# EAGLE library part AK4115 (library akm)
High Feature 192kHz 24bit Digital Audio Interface Transceiver
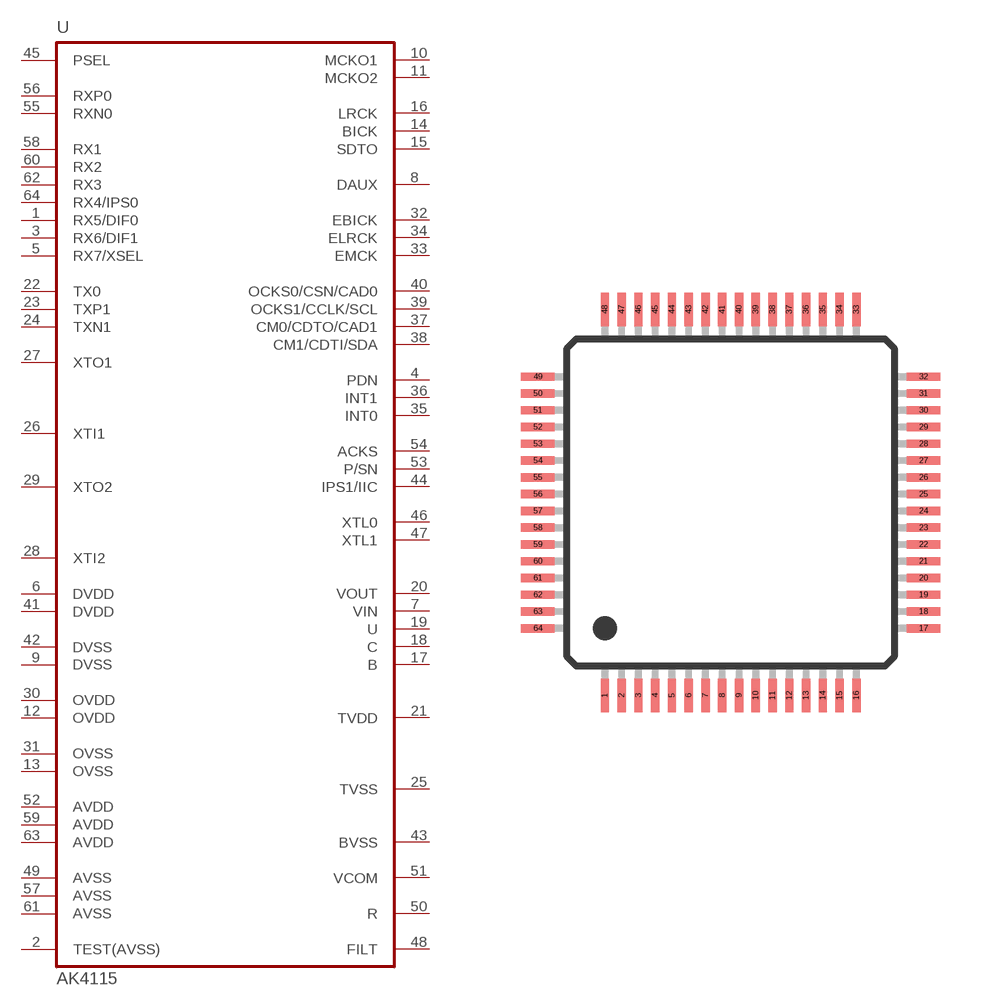
[diagram p25: symbol with the pads of LQFP64; footprint LQFP64]

Designator prefix U

## AK4115  [LQFP64]
1  RX5/DIF0
2  TEST(AVSS)  in
3  RX6/DIF1
4  PDN  in
5  RX7/XSEL
6  DVDD  pwr
7  VIN  in
8  DAUX  in
9  DVSS  pwr
10  MCKO1  out
11  MCKO2  out
12  OVDD  pwr
13  OVSS  pwr
14  BICK
15  SDTO  out
16  LRCK
17  B
18  C
19  U
20  VOUT
21  TVDD  pwr
22  TX0  out
23  TXP1  out
24  TXN1  out
25  TVSS  pwr
26  XTI1  in
27  XTO1  out
28  XTI2  in
29  XTO2  out
30  OVDD  pwr
31  OVSS  pwr
32  EBICK
33  EMCK  in
34  ELRCK
35  INT0  out
36  INT1  out
37  CM0/CDTO/CAD1
38  CM1/CDTI/SDA
39  OCKS1/CCLK/SCL  in
40  OCKS0/CSN/CAD0  in
41  DVDD  pwr
42  DVSS  pwr
43  BVSS  pwr
44  IPS1/IIC  in
45  PSEL  in
46  XTL0  in
47  XTL1  in
48  FILT  out
49  AVSS  pwr
50  R  out
51  VCOM  out
52  AVDD  pwr
53  P/SN  in
54  ACKS  in
55  RXN0
56  RXP0
57  AVSS  pwr
58  RX1
59  AVDD  pwr
60  RX2
61  AVSS  pwr
62  RX3
63  AVDD  pwr
64  RX4/IPS0

## Footprint LQFP64 (pad centres in mm)
LQFP64
smd 0.25 x 1: 1 -3.75,-5.75; 2 -3.25,-5.75; 3 -2.75,-5.75; 4 -2.25,-5.75; 5 -1.75,-5.75; 6 -1.25,-5.75; 7 -0.75,-5.75; 8 -0.25,-5.75; 9 0.25,-5.75; 10 0.75,-5.75; 11 1.25,-5.75; 12 1.75,-5.75; 13 2.25,-5.75; 14 2.75,-5.75; 15 3.25,-5.75; 16 3.75,-5.75; 33 3.75,5.75; 34 3.25,5.75; 35 2.75,5.75; 36 2.25,5.75; 37 1.75,5.75; 38 1.25,5.75; 39 0.75,5.75; 40 0.25,5.75; 41 -0.25,5.75; 42 -0.75,5.75; 43 -1.25,5.75; 44 -1.75,5.75; 45 -2.25,5.75; 46 -2.75,5.75; 47 -3.25,5.75; 48 -3.75,5.75
smd 1 x 0.25: 17 5.75,-3.75; 18 5.75,-3.25; 19 5.75,-2.75; 20 5.75,-2.25; 21 5.75,-1.75; 22 5.75,-1.25; 23 5.75,-0.75; 24 5.75,-0.25; 25 5.75,0.25; 26 5.75,0.75; 27 5.75,1.25; 28 5.75,1.75; 29 5.75,2.25; 30 5.75,2.75; 31 5.75,3.25; 32 5.75,3.75; 49 -5.75,3.75; 50 -5.75,3.25; 51 -5.75,2.75; 52 -5.75,2.25; 53 -5.75,1.75; 54 -5.75,1.25; 55 -5.75,0.75; 56 -5.75,0.25; 57 -5.75,-0.25; 58 -5.75,-0.75; 59 -5.75,-1.25; 60 -5.75,-1.75; 61 -5.75,-2.25; 62 -5.75,-2.75; 63 -5.75,-3.25; 64 -5.75,-3.75